# EAGLE library part XC3S5000FG900 (library xilinx_spartan3_virtex4_and_5)
Xilinx FPGA
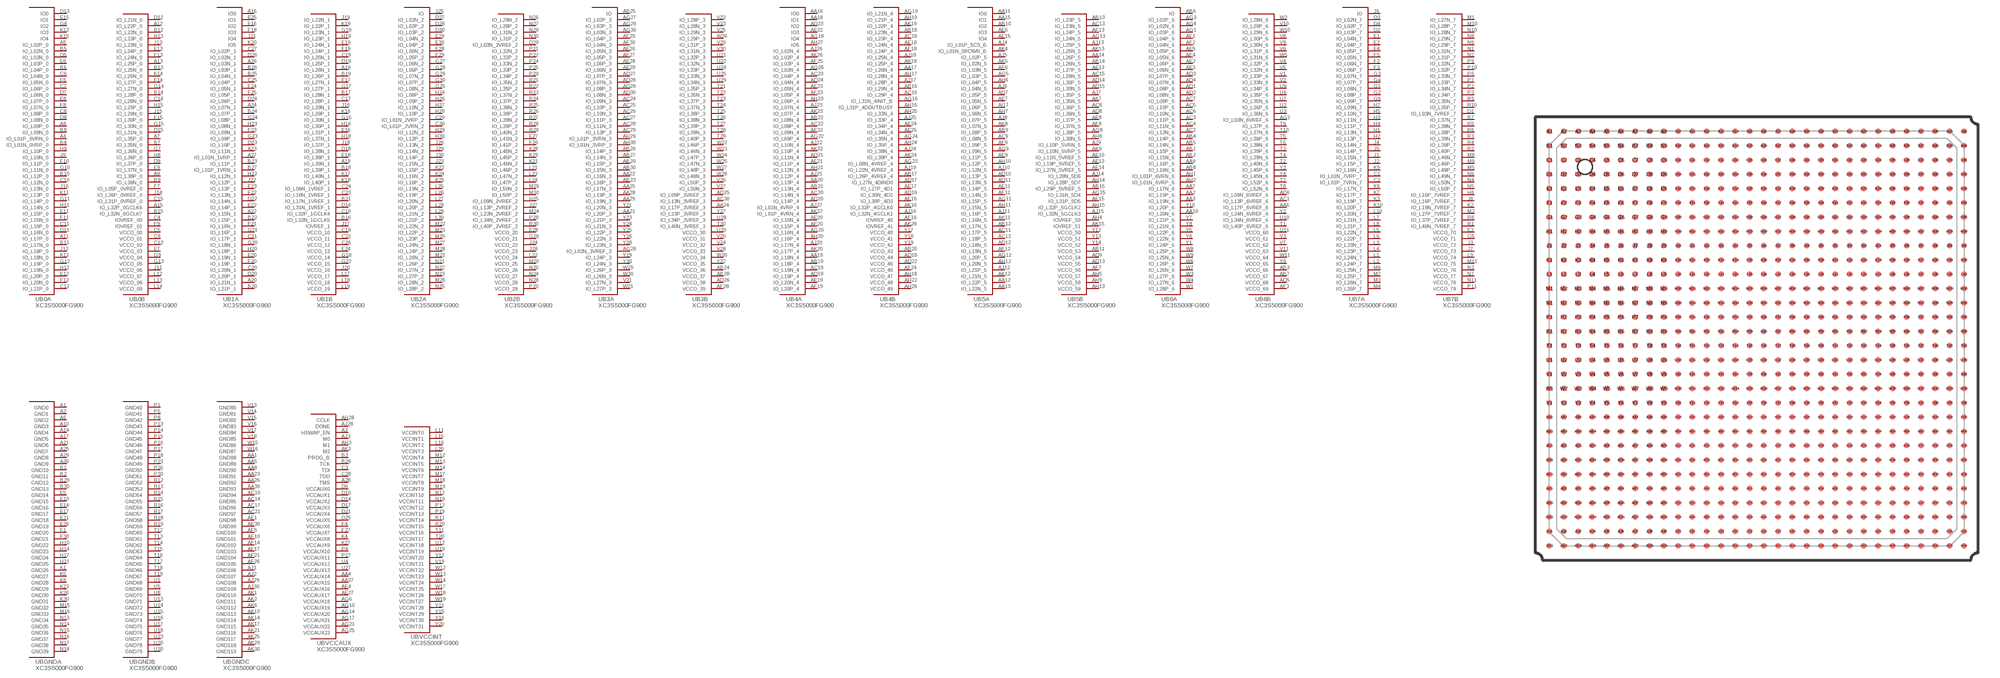
[diagram p25: symbol with the pads of FG900; footprint FG900]

Designator prefix U; gates B0A=XC3S5000FG900_0A B0B=XC3S5000FG900_0B B1A=XC3S5000FG900_1A B1B=XC3S5000FG900_1B B2A=XC3S5000FG900_2A B2B=XC3S5000FG900_2B B3A=XC3S5000FG900_3A B3B=XC3S5000FG900_3B B4A=XC3S5000FG900_4A B4B=XC3S5000FG900_4B B5A=XC3S5000FG900_5A B5B=XC3S5000FG900_5B B6A=XC3S5000FG900_6A B6B=XC3S5000FG900_6B B7A=XC3S5000FG900_7A B7B=XC3S5000FG900_7B BGNDA=XC3S5000FG900_GNDA BGNDB=XC3S5000FG900_GNDB BGNDC=XC3S5000FG900_GNDC BVCCAUX=XC3S5000FG900_VCCAUX BVCCINT=XC3S5000FG900_VCCINT

## XC3S5000FG900  [FG900]
A1  BGNDA:GND0  pas
A2  BGNDA:GND1  pas
A3  BVCCAUX:HSWAP_EN
A4  B0A:IO_L01P_0VRN_0
A5  B0A:IO_L02P_0
A6  BGNDA:GND2  pas
A7  B0B:IO_L35P_0
A8  B0A:IO_L09P_0
A9  B0B:IO_L38P_0
A10  BGNDA:GND3  pas
A11  B0A:IO_L17P_0
A12  B0B:IO_L22P_0
A13  B0B:IO_L25P_0
A14  BGNDA:GND4  pas
A15  B0B:IO_L32P_0GCLK6
A16  B1A:IO0
A17  BGNDA:GND5  pas
A18  B1B:IO_L39N_1
A19  B1B:IO_L26N_1
A20  B1A:IO_L21N_1
A21  BGNDA:GND6  pas
A22  B1A:IO_L15N_1
A23  B1A:IO_L11N_1
A24  B1A:IO_L07N_1
A25  BGNDA:GND7  pas
A26  B1A:IO_L03N_1
A27  B1A:IO_L01N_1VRP_1
A28  BVCCAUX:TMS
A29  BGNDA:GND8  pas
A30  BGNDA:GND9  pas
AA1  BGNDC:GND88  pas
AA2  B6A:IO_L19P_6
AA3  B6A:IO_L19N_6
AA4  BVCCAUX:VCCAUX14  pas
AA5  BGNDC:GND89  pas
AA6  B6B:IO_L17P_6VREF_6
AA7  B6A:IO_L17N_6
AA8  BGNDC:GND90  pas
AA9  B6A:IO_L16P_6
AA10  B6A:IO_L20N_6
AA11  B5A:IO0
AA12  B5A:IO_L22P_5
AA13  B5A:IO_L22N_5
AA14  B5B:IO_L26P_5
AA15  B5A:IO1
AA16  B4A:IO0
AA17  B4B:IO_L26N_4
AA18  B4A:IO1
AA19  B4A:IO_L18N_4
AA20  B4A:IO_L13P_4
AA21  B3A:IO_L20P_3
AA22  B3A:IO_L16N_3
AA23  BGNDC:GND91  pas
AA24  B3B:IO_L17P_3VREF_3
AA25  B3A:IO_L17N_3
AA26  BGNDC:GND92  pas
AA27  BVCCAUX:VCCAUX15  pas
AA28  B3A:IO_L19P_3
AA29  B3A:IO_L19N_3
AA30  BGNDC:GND93  pas
AB1  B6A:IO_L15P_6
AB2  B6A:IO_L15N_6
AB3  B6B:VCCO_66  pas
AB4  B6A:IO_L14P_6
AB5  B6A:IO_L14N_6
AB6  B6A:IO
AB7  B6B:VCCO_67  pas
AB8  B6A:IO_L16N_6
AB9  B5A:IO_L08P_5
AB10  B5A:IO2
AB11  B5B:VCCO_53  pas
AB12  B5A:IO_L17N_5
AB13  B5B:IO_L23P_5
AB14  B5B:IO_L26N_5
AB15  B5B:IO_L29P_5VREF_5
AB16  B4B:IO_L29N_4
AB17  B4B:IO_L26P_4VREF_4
AB18  B4B:IO_L23N_4
AB19  B4A:IO_L18P_4
AB20  B4B:VCCO_43  pas
AB21  B4A:IO_L13N_4
AB22  B4A:IO_L08N_4
AB23  B3A:IO_L16P_3
AB24  B3B:VCCO_36  pas
AB25  B3A:IO
AB26  B3A:IO_L14P_3
AB27  B3A:IO_L14N_3
AB28  B3B:VCCO_37  pas
AB29  B3A:IO_L15P_3
AB30  B3A:IO_L15N_3
AC1  B6B:IO_L13P_6VREF_6
AC2  B6A:IO_L13N_6
AC3  B6A:IO_L11P_6
AC4  B6A:IO_L11N_6
AC5  B6A:IO_L10P_6
AC6  B6A:IO_L10N_6
AC7  B6A:IO_L09P_6
AC8  B5B:IO_L36P_5
AC9  B5A:IO_L08N_5
AC10  BGNDC:GND94  pas
AC11  B5A:IO_L17P_5
AC12  B5A:IO_L18P_5
AC13  B5B:IO_L23N_5
AC14  BGNDC:GND95  pas
AC15  B5B:IO_L29N_5
AC16  B4B:IO_L29P_4
AC17  BGNDC:GND96  pas
AC18  B4B:IO_L23P_4
AC19  B4A:IO_L19N_4
AC20  B4A:IO_L14N_4
AC21  BGNDC:GND97  pas
AC22  B4A:IO_L08P_4
AC23  B4A:IO_L04P_4
AC24  B3A:IO_L09N_3
AC25  B3A:IO_L10P_3
AC26  B3A:IO_L10N_3
AC27  B3A:IO_L11P_3
AC28  B3A:IO_L11N_3
AC29  B3A:IO_L13P_3
AC30  B3B:IO_L13N_3VREF_3
AD1  B6A:IO_L08P_6
AD2  B6A:IO_L08N_6
AD3  B6A:IO_L07P_6
AD4  B6A:IO_L07N_6
AD5  B6B:VCCO_68  pas
AD6  B6B:IO_L09N_6VREF_6
AD7  B5A:IO_L05P_5
AD8  B5B:IO_L36N_5
AD9  B5B:VCCO_54  pas
AD10  B5A:IO_L13P_5
AD11  B5A:IO_L13N_5
AD12  B5A:IO_L18N_5
AD13  B5B:VCCO_55  pas
AD14  B5B:IO_L30P_5
AD15  B5B:IO_L30N_5
AD16  B4B:IO_L30N_4D2
AD17  B4B:IO_L27N_4DIND0
AD18  B4B:VCCO_44  pas
AD19  B4A:IO_L19P_4
AD20  B4A:IO_L14P_4
AD21  B4A:IO_L11N_4
AD22  B4B:VCCO_45  pas
AD23  B4A:IO2
AD24  B4A:IO_L04N_4
AD25  B3B:IO_L09P_3VREF_3
AD26  B3B:VCCO_38  pas
AD27  B3A:IO_L07P_3
AD28  B3A:IO_L07N_3
AD29  B3A:IO_L08P_3
AD30  B3A:IO_L08N_3
AE1  BGNDC:GND98  pas
AE2  B6A:IO_L06P_6
AE3  B6A:IO_L06N_6
AE4  BVCCAUX:VCCAUX16  pas
AE5  B6A:IO_L05P_6
AE6  B5A:IO3
AE7  B5A:IO_L05N_5
AE8  B5B:IO_L37P_5
AE9  B5A:IO_L11P_5
AE10  B5B:IO_L11N_5VREF_5
AE11  B5A:IO_L14P_5
AE12  B5B:IO_L19P_5VREF_5
AE13  B5B:IO_L27P_5
AE14  B5B:IO_L27N_5VREF_5
AE15  B5A:IO4
AE16  B4B:IO_L30P_4D3
AE17  B4B:IO_L27P_4D1
AE18  B4B:IO_L24N_4
AE19  B4A:IO_L20N_4
AE20  B4A:IO_L15N_4
AE21  B4A:IO_L11P_4
AE22  B4A:IO3
AE23  B4A:IO_L05N_4
AE24  B4B:IO_L34P_4
AE25  B4B:IO_L34N_4
AE26  B3A:IO_L05N_3
AE27  BVCCAUX:VCCAUX17  pas
AE28  B3A:IO_L06P_3
AE29  B3A:IO_L06N_3
AE30  BGNDC:GND99  pas
AF1  B6A:IO_L04P_6
AF2  B6A:IO_L04N_6
AF3  B6B:VCCO_69  pas
AF4  B6A:IO_L05N_6
AF5  BGNDC:GND100  pas
AF6  B5A:IO_L03N_5
AF7  B5B:VCCO_56  pas
AF8  B5B:IO_L37N_5
AF9  B5A:IO_L09P_5
AF10  BGNDC:GND101  pas
AF11  B5A:IO_L14N_5
AF12  B5A:IO_L19N_5
AF13  B5B:IO_L24P_5
AF14  BGNDC:GND102  pas
AF15  B5B:IO_L31P_5D5
AF16  B4B:IOVREF_40
AF17  BGNDC:GND103  pas
AF18  B4B:IO_L24P_4
AF19  B4A:IO_L20P_4
AF20  B4A:IO_L15P_4
AF21  BGNDC:GND104  pas
AF22  B4A:IO_L09N_4
AF23  B4A:IO_L05P_4
AF24  B4B:VCCO_46  pas
AF25  B4A:IO_L03P_4
AF26  BGNDC:GND105  pas
AF27  B3A:IO_L05P_3
AF28  B3B:VCCO_39  pas
AF29  B3A:IO_L04P_3
AF30  B3A:IO_L04N_3
AG1  B6A:IO_L03P_6
AG2  B6B:IO_L03N_6VREF_6
AG3  B6A:IO_L02P_6
AG4  B6A:IO_L02N_6
AG5  B5A:IO_L03P_5
AG6  BVCCAUX:VCCAUX18  pas
AG7  B5A:IO_L06P_5
AG8  B5B:IO_L38P_5
AG9  B5A:IO_L09N_5
AG10  BVCCAUX:VCCAUX19  pas
AG11  B5A:IO_L15P_5
AG12  B5A:IO_L20P_5
AG13  B5B:IO_L24N_5
AG14  BVCCAUX:VCCAUX20  pas
AG15  B5B:IO_L31N_5D4
AG16  B4B:IO_L31N_4INIT_B
AG17  BVCCAUX:VCCAUX21  pas
AG18  B4A:IO4
AG19  B4B:IO_L21N_4
AG20  B4A:IO_L16N_4
AG21  BVCCAUX:VCCAUX22  pas
AG22  B4A:IO_L09P_4
AG23  B4B:IO_L06N_4VREF_4
AG24  B4B:IO_L35N_4
AG25  BVCCAUX:VCCAUX23  pas
AG26  B4A:IO_L03N_4
AG27  B3A:IO_L02P_3
AG28  B3A:IO_L02N_3VREF_3
AG29  B3A:IO_L03P_3
AG30  B3A:IO_L03N_3
AH1  B6A:IO_L01P_6VRN_6
AH2  B6A:IO_L01N_6VRP_6
AH3  BVCCAUX:M1
AH4  B5B:IOVREF_50
AH5  B5B:VCCO_57  pas
AH6  B5A:IO_L04P_5
AH7  B5A:IO_L06N_5
AH8  B5B:IO_L38N_5
AH9  B5B:VCCO_58  pas
AH10  B5A:IO_L12P_5
AH11  B5A:IO_L15N_5
AH12  B5A:IO_L20N_5
AH13  B5B:VCCO_59  pas
AH14  B5B:IO_L28P_5D7
AH15  B5B:IO_L32P_5GCLK2
AH16  B4B:IO_L31P_4DOUTBUSY
AH17  B4B:IO_L28N_4
AH18  B4B:VCCO_47  pas
AH19  B4B:IO_L21P_4
AH20  B4A:IO_L16P_4
AH21  B4A:IO_L12N_4
AH22  B4B:VCCO_48  pas
AH23  B4A:IO_L06P_4
AH24  B4B:IO_L35P_4
AH25  B4B:IO_L33N_4
AH26  B4B:VCCO_49  pas
AH27  B4A:IO5
AH28  BVCCAUX:CCLK
AH29  B3A:IO_L01P_3VRN_3
AH30  B3A:IO_L01N_3VRP_3
AJ1  BGNDC:GND106  pas
AJ2  BGNDC:GND107  pas
AJ3  BVCCAUX:M0
AJ4  B5A:IO_L01P_5CS_B
AJ5  B5A:IO_L02P_5
AJ6  B5A:IO_L04N_5
AJ7  B5B:IO_L35P_5
AJ8  B5A:IO_L07P_5
AJ9  B5B:IO_L10P_5VRN_5
AJ10  B5A:IO_L12N_5
AJ11  B5A:IO_L16P_5
AJ12  B5A:IO_L21P_5
AJ13  B5B:IO_L25P_5
AJ14  B5B:IO_L28N_5D6
AJ15  B5B:IO_L32N_5GCLK3
AJ16  B4B:IO_L32N_4GCLK1
AJ17  B4B:IO_L28P_4
AJ18  B4B:IO_L25N_4
AJ19  B4B:IO_L22N_4VREF_4
AJ20  B4A:IO_L17N_4
AJ21  B4A:IO_L12P_4
AJ22  B4A:IO_L10N_4
AJ23  B4A:IO_L07N_4
AJ24  B4B:IO_L38N_4
AJ25  B4B:IO_L33P_4
AJ26  B4A:IO_L02N_4
AJ27  B4A:IO_L01N_4VRP_4
AJ28  BVCCAUX:DONE
AJ29  BGNDC:GND108  pas
AJ30  BGNDC:GND109  pas
AK1  BGNDC:GND110  pas
AK2  BGNDC:GND111  pas
AK3  BVCCAUX:M2
AK4  B5A:IO_L01N_5RDWR_B
AK5  B5A:IO_L02N_5
AK6  BGNDC:GND112  pas
AK7  B5B:IO_L35N_5
AK8  B5A:IO_L07N_5
AK9  B5B:IO_L10N_5VRP_5
AK10  BGNDC:GND113  pas
AK11  B5A:IO_L16N_5
AK12  B5A:IO_L21N_5
AK13  B5B:IO_L25N_5
AK14  BGNDC:GND114  pas
AK15  B5B:IOVREF_51
AK16  B4B:IO_L32P_4GCLK0
AK17  BGNDC:GND115  pas
AK18  B4B:IO_L25P_4
AK19  B4B:IO_L22P_4
AK20  B4A:IO_L17P_4
AK21  BGNDC:GND116  pas
AK22  B4A:IO_L10P_4
AK23  B4A:IO_L07P_4
AK24  B4B:IO_L38P_4
AK25  BGNDC:GND117  pas
AK26  B4A:IO_L02P_4
AK27  B4A:IO_L01P_4VRN_4
AK28  B4B:IOVREF_41
AK29  BGNDC:GND118  pas
AK30  BGNDC:GND119  pas
B1  BGNDA:GND10  pas
B2  BGNDA:GND11  pas
B3  BVCCAUX:PROG_B
B4  B0A:IO_L01N_0VRP_0
B5  B0A:IO_L02N_0
B6  B0A:IO_L04P_0
B7  B0B:IO_L35N_0
B8  B0A:IO_L09N_0
B9  B0B:IO_L38N_0
B10  B0A:IO_L12P_0
B11  B0A:IO_L17N_0
B12  B0B:IO_L22N_0
B13  B0B:IO_L25N_0
B14  B0B:IO_L28P_0
B15  B0B:IO_L32N_0GCLK7
B16  B1B:IO_L32N_1GCLK5
B17  B1B:IO_L28N_1
B18  B1B:IO_L39P_1
B19  B1B:IO_L26P_1
B20  B1A:IO_L21P_1
B21  B1B:IO_L17N_1VREF_1
B22  B1A:IO_L15P_1
B23  B1A:IO_L11P_1
B24  B1A:IO_L07P_1
B25  B1A:IO_L04N_1
B26  B1A:IO_L03P_1
B27  B1A:IO_L01P_1VRN_1
B28  BVCCAUX:TCK
B29  BGNDA:GND12  pas
B30  BGNDA:GND13  pas
C1  B7A:IO_L01N_7VRP_7
C2  B7A:IO_L01P_7VRN_7
C3  BVCCAUX:TDI
C4  B0B:IOVREF_00
C5  B0B:VCCO_00  pas
C6  B0A:IO_L04N_0
C7  B0A:IO_L06P_0
C8  B0A:IO_L08P_0
C9  B0B:VCCO_01  pas
C10  B0A:IO_L12N_0
C11  B0A:IO_L16P_0
C12  B0A:IO_L21P_0
C13  B0B:VCCO_02  pas
C14  B0B:IO_L28N_0
C15  B0B:IO_L31P_0VREF_0
C16  B1B:IO_L32P_1GCLK4
C17  B1B:IO_L28P_1
C18  B1B:VCCO_10  pas
C19  B1B:IO_L25N_1
C20  B1A:IO_L20N_1
C21  B1A:IO_L17P_1
C22  B1B:VCCO_11  pas
C23  B1B:IO_L10N_1VREF_1
C24  B1B:IO_L06N_1VREF_1
C25  B1A:IO_L04P_1
C26  B1B:VCCO_12  pas
C27  B1A:IO_L02P_1
C28  BVCCAUX:TDO
C29  B2A:IO_L01N_2VRP_2
C30  B2A:IO_L01P_2VRN_2
D1  B7B:IO_L03N_7VREF_7
D2  B7A:IO_L03P_7
D3  B7A:IO_L02N_7
D4  B7A:IO_L02P_7
D5  B0A:IO_L03N_0
D6  BVCCAUX:VCCAUX0  pas
D7  B0A:IO_L06N_0
D8  B0A:IO_L08N_0
D9  B0B:IO_L37P_0
D10  BVCCAUX:VCCAUX1  pas
D11  B0A:IO_L16N_0
D12  B0B:IO_L21N_0
D13  B0A:IO0
D14  BVCCAUX:VCCAUX2  pas
D15  B0B:IO_L31N_0
D16  B1B:IO_L31N_1VREF_1
D17  BVCCAUX:VCCAUX3  pas
D18  B1B:IO_L38N_1
D19  B1B:IO_L25P_1
D20  B1A:IO_L20P_1
D21  BVCCAUX:VCCAUX4  pas
D22  B1A:IO_L14N_1
D23  B1A:IO_L10P_1
D24  B1A:IO_L06P_1
D25  BVCCAUX:VCCAUX5  pas
D26  B1A:IO_L02N_1
D27  B2A:IO_L02N_2
D28  B2A:IO_L02P_2
D29  B2B:IO_L03N_2VREF_2
D30  B2A:IO_L03P_2
E1  B7A:IO_L04N_7
E2  B7A:IO_L04P_7
E3  B7B:VCCO_70  pas
E4  B7A:IO_L05P_7
E5  BGNDA:GND14  pas
E6  B0A:IO_L03P_0
E7  B0B:VCCO_03  pas
E8  B0A:IO_L07P_0
E9  B0B:IO_L37N_0
E10  BGNDA:GND15  pas
E11  B0A:IO_L15P_0
E12  B0A:IO_L20P_0
E13  B0B:IO_L24P_0
E14  BGNDA:GND16  pas
E15  B0A:IO1
E16  B1B:IO_L31P_1
E17  BGNDA:GND17  pas
E18  B1B:IO_L38P_1
E19  B1B:IO_L24N_1
E20  B1A:IO_L19N_1
E21  BGNDA:GND18  pas
E22  B1A:IO_L14P_1
E23  B1A:IO_L13P_1
E24  B1B:VCCO_13  pas
E25  B1A:IO1
E26  BGNDA:GND19  pas
E27  B2B:IO_L41N_2
E28  B2B:VCCO_20  pas
E29  B2A:IO_L04N_2
E30  B2A:IO_L04P_2
F1  BGNDA:GND20  pas
F2  B7A:IO_L06N_7
F3  B7A:IO_L06P_7
F4  BVCCAUX:VCCAUX6  pas
F5  B7A:IO_L05N_7
F6  B0A:IO_L05N_0
F7  B0B:IO_L05P_0VREF_0
F8  B0A:IO_L07N_0
F9  B0B:IOVREF_01
F10  B0A:IO_L11P_0
F11  B0A:IO_L15N_0
F12  B0A:IO_L20N_0
F13  B0B:IO_L24N_0
F14  B0B:IO_L27P_0
F15  B0B:IO_L30P_0
F16  B1A:IO2
F17  B1B:IO_L27N_1
F18  B1A:IO3
F19  B1B:IO_L24P_1
F20  B1A:IO_L19P_1
F21  B1A:IO_L16N_1
F22  B1A:IO_L13N_1
F23  B1A:IO_L09N_1
F24  B1A:IO_L05N_1
F25  B1A:IO_L05P_1
F26  B2B:IO_L41P_2
F27  BVCCAUX:VCCAUX7  pas
F28  B2A:IO_L05N_2
F29  B2A:IO_L05P_2
F30  BGNDA:GND21  pas
G1  B7A:IO_L08N_7
G2  B7A:IO_L08P_7
G3  B7A:IO_L07N_7
G4  B7A:IO_L07P_7
G5  B7B:VCCO_71  pas
G6  B7A:IO_L09P_7
G7  B0B:IO_L36N_0
G8  B0A:IO2
G9  B0B:VCCO_04  pas
G10  B0A:IO_L11N_0
G11  B0A:IO_L14P_0
G12  B0A:IO_L19P_0
G13  B0B:VCCO_05  pas
G14  B0B:IO_L27N_0
G15  B0B:IO_L30N_0
G16  B1B:IO_L30N_1
G17  B1B:IO_L27P_1
G18  B1B:VCCO_14  pas
G19  B1B:IO_L23N_1
G20  B1A:IO_L18N_1
G21  B1A:IO_L16P_1
G22  B1B:VCCO_15  pas
G23  B1A:IO_L09P_1
G24  B1A:IO_L08P_1
G25  B2A:IO_L08N_2
G26  B2B:VCCO_21  pas
G27  B2A:IO_L06N_2
G28  B2A:IO_L06P_2
G29  B2A:IO_L07N_2
G30  B2A:IO_L07P_2
H1  B7A:IO_L13N_7
H2  B7A:IO_L13P_7
H3  B7A:IO_L11N_7
H4  B7A:IO_L11P_7
H5  B7A:IO_L10N_7
H6  B7B:IO_L10P_7VREF_7
H7  B7A:IO_L09N_7
H8  B0B:IO_L36P_0
H9  B0A:IO_L10P_0
H10  BGNDA:GND22  pas
H11  B0A:IO_L14N_0
H12  B0A:IO_L19N_0
H13  B0B:IO_L23P_0
H14  BGNDA:GND23  pas
H15  B0B:IO_L29P_0
H16  B1B:IO_L30P_1
H17  BGNDA:GND24  pas
H18  B1B:IO_L37N_1
H19  B1B:IO_L23P_1
H20  B1A:IO_L18P_1
H21  BGNDA:GND25  pas
H22  B1A:IO_L12N_1
H23  B1A:IO_L08N_1
H24  B2A:IO_L08P_2
H25  B2B:IO_L09N_2VREF_2
H26  B2A:IO_L09P_2
H27  B2A:IO_L10N_2
H28  B2A:IO_L10P_2
H29  B2A:IO_L12N_2
H30  B2A:IO_L12P_2
J1  B7A:IO_L15N_7
J2  B7A:IO_L15P_7
J3  B7B:VCCO_72  pas
J4  B7A:IO_L14N_7
J5  B7A:IO_L14P_7
J6  B7A:IO
J7  B7B:VCCO_73  pas
J8  B7B:IO_L16P_7VREF_7
J9  B0A:IO_L10N_0
J10  B0A:IO_L13N_0
J11  B0B:VCCO_06  pas
J12  B0A:IO_L18P_0
J13  B0B:IO_L23N_0
J14  B0B:IO_L26P_0VREF_0
J15  B0B:IO_L29N_0
J16  B1B:IO_L29N_1
J17  B1B:IOVREF_1
J18  B1B:IO_L37P_1
J19  B1B:IO_L22N_1
J20  B1B:VCCO_16  pas
J21  B1A:IO4
J22  B1A:IO_L12P_1
J23  B2A:IO_L15N_2
J24  B2B:VCCO_22  pas
J25  B2A:IO
J26  B2A:IO_L13N_2
J27  B2B:IO_L13P_2VREF_2
J28  B2B:VCCO_23  pas
J29  B2A:IO_L14N_2
J30  B2A:IO_L14P_2
K1  BGNDA:GND26  pas
K2  B7B:IO_L19N_7VREF_7
K3  B7A:IO_L19P_7
K4  BVCCAUX:VCCAUX8  pas
K5  BGNDA:GND27  pas
K6  B7A:IO_L17N_7
K7  B7A:IO_L17P_7
K8  BGNDA:GND28  pas
K9  B7A:IO_L16N_7
K10  B7A:IO_L20P_7
K11  B0A:IO_L13P_0
K12  B0A:IO_L18N_0
K13  B0A:IO3
K14  B0B:IO_L26N_0
K15  B0A:IO4
K16  B1B:IO_L29P_1
K17  B1B:IO_L40N_1
K18  B1B:IO_L40P_1
K19  B1B:IO_L22P_1
K20  B1A:IO5
K21  B2B:IO_L46N_2
K22  B2A:IO_L15P_2
K23  BGNDA:GND29  pas
K24  B2A:IO_L16N_2
K25  B2A:IO_L16P_2
K26  BGNDA:GND30  pas
K27  BVCCAUX:VCCAUX9  pas
K28  B2B:IO_L45N_2
K29  B2B:IO_L45P_2
K30  BGNDA:GND31  pas
L1  B7A:IO_L24N_7
L2  B7A:IO_L24P_7
L3  B7A:IO_L23N_7
L4  B7A:IO_L23P_7
L5  B7A:IO_L22N_7
L6  B7A:IO_L22P_7
L7  B7A:IO_L21N_7
L8  B7A:IO_L21P_7
L9  B7B:VCCO_74  pas
L10  B7A:IO_L20N_7
L11  BVCCINT:VCCINT0  pas
L12  B0B:VCCO_07  pas
L13  B0B:VCCO_08  pas
L14  B0B:VCCO_09  pas
L15  BVCCINT:VCCINT1  pas
L16  BVCCINT:VCCINT2  pas
L17  B1B:VCCO_17  pas
L18  B1B:VCCO_18  pas
L19  B1B:VCCO_19  pas
L20  BVCCINT:VCCINT3  pas
L21  B2B:IO_L46P_2
L22  B2B:VCCO_24  pas
L23  B2B:IO_L47N_2
L24  B2B:IO_L47P_2
L25  B2A:IO_L19N_2
L26  B2A:IO_L19P_2
L27  B2A:IO_L20N_2
L28  B2A:IO_L20P_2
L29  B2A:IO_L21N_2
L30  B2A:IO_L21P_2
M1  B7B:IO_L27N_7
M2  B7B:IO_L27P_7VREF_7
M3  B7A:IO_L26N_7
M4  B7A:IO_L26P_7
M5  B7B:IO_L49P_7
M6  B7A:IO_L25N_7
M7  B7A:IO_L25P_7
M8  B7B:IO_L46N_7
M9  B7B:IO_L46P_7
M10  B7B:IO_L28P_7
M11  B7B:VCCO_75  pas
M12  BVCCINT:VCCINT4  pas
M13  BVCCINT:VCCINT5  pas
M14  BVCCINT:VCCINT6  pas
M15  BGNDA:GND32  pas
M16  BGNDA:GND33  pas
M17  BVCCINT:VCCINT7  pas
M18  BVCCINT:VCCINT8  pas
M19  BVCCINT:VCCINT9  pas
M20  B2B:VCCO_25  pas
M21  B2A:IO_L26N_2
M22  B2A:IO_L22N_2
M23  B2A:IO_L22P_2
M24  B2B:IO_L23N_2VREF_2
M25  B2A:IO_L23P_2
M26  B2A:IO_L28N_2
M27  B2A:IO_L24N_2
M28  B2A:IO_L24P_2
M29  B2B:IO_L50N_2
M30  B2B:IO_L50P_2
N1  B7B:IO_L31N_7
N2  B7B:IO_L31P_7
N3  B7B:VCCO_76  pas
N4  B7B:IO_L50N_7
N5  B7B:IO_L50P_7
N6  B7B:IO_L49N_7
N7  B7B:VCCO_77  pas
N8  B7B:IO_L29N_7
N9  B7B:IO_L29P_7
N10  B7B:IO_L28N_7
N11  B7B:VCCO_78  pas
N12  BVCCINT:VCCINT10  pas
N13  BGNDA:GND34  pas
N14  BGNDA:GND35  pas
N15  BGNDA:GND36  pas
N16  BGNDA:GND37  pas
N17  BGNDA:GND38  pas
N18  BGNDA:GND39  pas
N19  BVCCINT:VCCINT11  pas
N20  B2B:VCCO_26  pas
N21  B2A:IO_L26P_2
N22  B2A:IO_L27N_2
N23  B2A:IO_L27P_2
N24  B2B:VCCO_27  pas
N25  B2A:IO_L28P_2
N26  B2B:IO_L29N_2
N27  B2B:IO_L29P_2
N28  B2B:VCCO_28  pas
N29  B2B:IO_L31N_2
N30  B2B:IO_L31P_2
P1  BGNDB:GND40  pas
P2  B7B:IO_L34N_7
P3  B7B:IO_L34P_7
P4  BVCCAUX:VCCAUX10  pas
P5  BGNDB:GND41  pas
P6  B7B:IO_L33N_7
P7  B7B:IO_L33P_7
P8  BGNDB:GND42  pas
P9  B7B:IO_L32N_7
P10  B7B:IO_L32P_7
P11  B7B:VCCO_79  pas
P12  BVCCINT:VCCINT12  pas
P13  BGNDB:GND43  pas
P14  BGNDB:GND44  pas
P15  BGNDB:GND45  pas
P16  BGNDB:GND46  pas
P17  BGNDB:GND47  pas
P18  BGNDB:GND48  pas
P19  BVCCINT:VCCINT13  pas
P20  B2B:VCCO_29  pas
P21  B2B:IO_L32N_2
P22  B2B:IO_L32P_2
P23  BGNDB:GND49  pas
P24  B2B:IO_L33N_2
P25  B2B:IO_L33P_2
P26  BGNDB:GND50  pas
P27  BVCCAUX:VCCAUX11  pas
P28  B2B:IO_L34N_2VREF_2
P29  B2B:IO_L34P_2
P30  BGNDB:GND51  pas
R1  B7B:IO_L40N_7VREF_7
R2  B7B:IO_L40P_7
R3  B7B:IO_L39N_7
R4  B7B:IO_L39P_7
R5  B7B:IO_L38N_7
R6  B7B:IO_L38P_7
R7  B7B:IO_L37N_7
R8  B7B:IO_L37P_7VREF_7
R9  B7B:IO_L35N_7
R10  B7B:IO_L35P_7
R11  BVCCINT:VCCINT14  pas
R12  BGNDB:GND52  pas
R13  BGNDB:GND53  pas
R14  BGNDB:GND54  pas
R15  BGNDB:GND55  pas
R16  BGNDB:GND56  pas
R17  BGNDB:GND57  pas
R18  BGNDB:GND58  pas
R19  BGNDB:GND59  pas
R20  BVCCINT:VCCINT15  pas
R21  B2B:IO_L35N_2
R22  B2B:IO_L35P_2
R23  B2B:IO_L37N_2
R24  B2B:IO_L37P_2
R25  B2B:IO_L38N_2
R26  B2B:IO_L38P_2
R27  B2B:IO_L39N_2
R28  B2B:IO_L39P_2
R29  B2B:IO_L40N_2
R30  B2B:IO_L40P_2VREF_2
T1  B6B:IO_L40P_6VREF_6
T2  B6B:IO_L40N_6
T3  B6B:IO_L39P_6
T4  B6B:IO_L39N_6
T5  B6B:IO_L38P_6
T6  B6B:IO_L38N_6
T7  B6B:IO_L52P_6
T8  B6B:IO_L52N_6
T9  B6B:IO_L37P_6
T10  B6B:IO_L37N_6
T11  BVCCINT:VCCINT16  pas
T12  BGNDB:GND60  pas
T13  BGNDB:GND61  pas
T14  BGNDB:GND62  pas
T15  BGNDB:GND63  pas
T16  BGNDB:GND64  pas
T17  BGNDB:GND65  pas
T18  BGNDB:GND66  pas
T19  BGNDB:GND67  pas
T20  BVCCINT:VCCINT17  pas
T21  B3B:IO_L35P_3
T22  B3B:IO_L35N_3
T23  B3B:IO_L37P_3
T24  B3B:IO_L37N_3
T25  B3B:IO_L38P_3
T26  B3B:IO_L38N_3
T27  B3B:IO_L39P_3
T28  B3B:IO_L39N_3
T29  B3B:IO_L40P_3
T30  B3B:IO_L40N_3VREF_3
U1  BGNDB:GND68  pas
U2  B6B:IO_L36P_6
U3  B6B:IO_L36N_6
U4  BVCCAUX:VCCAUX12  pas
U5  BGNDB:GND69  pas
U6  B6B:IO_L35P_6
U7  B6B:IO_L35N_6
U8  BGNDB:GND70  pas
U9  B6B:IO_L34P_6
U10  B6B:IO_L34N_6VREF_6
U11  B6B:VCCO_60  pas
U12  BVCCINT:VCCINT18  pas
U13  BGNDB:GND71  pas
U14  BGNDB:GND72  pas
U15  BGNDB:GND73  pas
U16  BGNDB:GND74  pas
U17  BGNDB:GND75  pas
U18  BGNDB:GND76  pas
U19  BVCCINT:VCCINT19  pas
U20  B3B:VCCO_30  pas
U21  B3B:IO_L32P_3
U22  B3B:IO_L32N_3
U23  BGNDB:GND77  pas
U24  B3B:IO_L33P_3
U25  B3B:IO_L33N_3
U26  BGNDB:GND78  pas
U27  BVCCAUX:VCCAUX13  pas
U28  B3B:IO_L34P_3VREF_3
U29  B3B:IO_L34N_3
U30  BGNDB:GND79  pas
V1  B6B:IO_L33P_6
V2  B6B:IO_L33N_6
V3  B6B:VCCO_61  pas
V4  B6B:IO_L32P_6
V5  B6B:IO_L32N_6
V6  B6B:IO_L31P_6
V7  B6B:VCCO_62  pas
V8  B6B:IO_L30P_6
V9  B6B:IO_L30N_6
V10  B6B:IO_L29P_6
V11  B6B:VCCO_63  pas
V12  BVCCINT:VCCINT20  pas
V13  BGNDC:GND80  pas
V14  BGNDC:GND81  pas
V15  BGNDC:GND82  pas
V16  BGNDC:GND83  pas
V17  BGNDC:GND84  pas
V18  BGNDC:GND85  pas
V19  BVCCINT:VCCINT21  pas
V20  B3B:VCCO_31  pas
V21  B3A:IO_L27N_3
V22  B3B:IO_L28P_3
V23  B3B:IO_L28N_3
V24  B3B:VCCO_32  pas
V25  B3B:IO_L29N_3
V26  B3B:IO_L50P_3
V27  B3B:IO_L50N_3
V28  B3B:VCCO_33  pas
V29  B3B:IO_L31P_3
V30  B3B:IO_L31N_3
W1  B6A:IO_L28P_6
W2  B6B:IO_L28N_6
W3  B6A:IO_L27P_6
W4  B6A:IO_L27N_6
W5  B6B:IO_L31N_6
W6  B6A:IO_L26P_6
W7  B6A:IO_L26N_6
W8  B6A:IO_L25P_6
W9  B6A:IO_L25N_6
W10  B6B:IO_L29N_6
W11  B6B:VCCO_64  pas
W12  BVCCINT:VCCINT22  pas
W13  BVCCINT:VCCINT23  pas
W14  BVCCINT:VCCINT24  pas
W15  BGNDC:GND86  pas
W16  BGNDC:GND87  pas
W17  BVCCINT:VCCINT25  pas
W18  BVCCINT:VCCINT26  pas
W19  BVCCINT:VCCINT27  pas
W20  B3B:VCCO_34  pas
W21  B3A:IO_L27P_3
W22  B3B:IO_L46P_3
W23  B3B:IO_L46N_3
W24  B3B:IO_L47P_3
W25  B3B:IO_L47N_3
W26  B3B:IO_L29P_3
W27  B3B:IO_L48P_3
W28  B3B:IO_L48N_3
W29  B3A:IO_L26P_3
W30  B3A:IO_L26N_3
Y1  B6A:IO_L24P_6
Y2  B6B:IO_L24N_6VREF_6
Y3  B6B:IO_L45P_6
Y4  B6B:IO_L45N_6
Y5  B6A:IO_L22P_6
Y6  B6A:IO_L22N_6
Y7  B6A:IO_L21P_6
Y8  B6A:IO_L21N_6
Y9  B6B:VCCO_65  pas
Y10  B6A:IO_L20P_6
Y11  BVCCINT:VCCINT28  pas
Y12  B5B:VCCO_50  pas
Y13  B5B:VCCO_51  pas
Y14  B5B:VCCO_52  pas
Y15  BVCCINT:VCCINT29  pas
Y16  BVCCINT:VCCINT30  pas
Y17  B4B:VCCO_40  pas
Y18  B4B:VCCO_41  pas
Y19  B4B:VCCO_42  pas
Y20  BVCCINT:VCCINT31  pas
Y21  B3A:IO_L20N_3
Y22  B3B:VCCO_35  pas
Y23  B3A:IO_L21P_3
Y24  B3A:IO_L21N_3
Y25  B3A:IO_L22P_3
Y26  B3A:IO_L22N_3
Y27  B3B:IO_L23P_3VREF_3
Y28  B3A:IO_L23N_3
Y29  B3A:IO_L24P_3
Y30  B3A:IO_L24N_3

## Footprint FG900 (pad centres in mm)
smd 0.4 x 0.4: A1 -14.5,14.5; A2 -13.5,14.5; A3 -12.5,14.5; A4 -11.5,14.5; A5 -10.5,14.5; A6 -9.5,14.5; A7 -8.5,14.5; A8 -7.5,14.5; A9 -6.5,14.5; A10 -5.5,14.5; A11 -4.5,14.5; A12 -3.5,14.5; A13 -2.5,14.5; A14 -1.5,14.5; A15 -0.5,14.5; A16 0.5,14.5; A17 1.5,14.5; A18 2.5,14.5; A19 3.5,14.5; A20 4.5,14.5; A21 5.5,14.5; A22 6.5,14.5; A23 7.5,14.5; A24 8.5,14.5; A25 9.5,14.5; A26 10.5,14.5; A27 11.5,14.5; A28 12.5,14.5; A29 13.5,14.5; A30 14.5,14.5; AA1 -14.5,-5.5; AA2 -13.5,-5.5; AA3 -12.5,-5.5; AA4 -11.5,-5.5; AA5 -10.5,-5.5; AA6 -9.5,-5.5; AA7 -8.5,-5.5; AA8 -7.5,-5.5; AA9 -6.5,-5.5; AA10 -5.5,-5.5; AA11 -4.5,-5.5; AA12 -3.5,-5.5; AA13 -2.5,-5.5; AA14 -1.5,-5.5; AA15 -0.5,-5.5; AA16 0.5,-5.5; AA17 1.5,-5.5; AA18 2.5,-5.5; AA19 3.5,-5.5; AA20 4.5,-5.5; AA21 5.5,-5.5; AA22 6.5,-5.5; AA23 7.5,-5.5; AA24 8.5,-5.5; AA25 9.5,-5.5; AA26 10.5,-5.5; AA27 11.5,-5.5; AA28 12.5,-5.5; AA29 13.5,-5.5; AA30 14.5,-5.5; AB1 -14.5,-6.5; AB2 -13.5,-6.5; AB3 -12.5,-6.5; AB4 -11.5,-6.5; AB5 -10.5,-6.5; AB6 -9.5,-6.5; AB7 -8.5,-6.5; AB8 -7.5,-6.5; AB9 -6.5,-6.5; AB10 -5.5,-6.5; AB11 -4.5,-6.5; AB12 -3.5,-6.5; AB13 -2.5,-6.5; AB14 -1.5,-6.5; AB15 -0.5,-6.5; AB16 0.5,-6.5; AB17 1.5,-6.5; AB18 2.5,-6.5; AB19 3.5,-6.5; AB20 4.5,-6.5; AB21 5.5,-6.5; AB22 6.5,-6.5; AB23 7.5,-6.5; AB24 8.5,-6.5; AB25 9.5,-6.5; AB26 10.5,-6.5; AB27 11.5,-6.5; AB28 12.5,-6.5; AB29 13.5,-6.5; AB30 14.5,-6.5; AC1 -14.5,-7.5; AC2 -13.5,-7.5; AC3 -12.5,-7.5; AC4 -11.5,-7.5; AC5 -10.5,-7.5; AC6 -9.5,-7.5; AC7 -8.5,-7.5; AC8 -7.5,-7.5; AC9 -6.5,-7.5; AC10 -5.5,-7.5; AC11 -4.5,-7.5; AC12 -3.5,-7.5; AC13 -2.5,-7.5; AC14 -1.5,-7.5; AC15 -0.5,-7.5; AC16 0.5,-7.5; AC17 1.5,-7.5; AC18 2.5,-7.5; AC19 3.5,-7.5; AC20 4.5,-7.5; AC21 5.5,-7.5; AC22 6.5,-7.5; AC23 7.5,-7.5; AC24 8.5,-7.5; AC25 9.5,-7.5; AC26 10.5,-7.5; AC27 11.5,-7.5; AC28 12.5,-7.5; AC29 13.5,-7.5; AC30 14.5,-7.5; AD1 -14.5,-8.5; AD2 -13.5,-8.5; AD3 -12.5,-8.5; AD4 -11.5,-8.5; AD5 -10.5,-8.5; AD6 -9.5,-8.5; AD7 -8.5,-8.5; AD8 -7.5,-8.5; AD9 -6.5,-8.5; AD10 -5.5,-8.5; AD11 -4.5,-8.5; AD12 -3.5,-8.5; AD13 -2.5,-8.5; AD14 -1.5,-8.5; AD15 -0.5,-8.5; AD16 0.5,-8.5; AD17 1.5,-8.5; AD18 2.5,-8.5; AD19 3.5,-8.5; AD20 4.5,-8.5; AD21 5.5,-8.5; AD22 6.5,-8.5; AD23 7.5,-8.5; AD24 8.5,-8.5; AD25 9.5,-8.5; AD26 10.5,-8.5; AD27 11.5,-8.5; AD28 12.5,-8.5; AD29 13.5,-8.5; AD30 14.5,-8.5; AE1 -14.5,-9.5; AE2 -13.5,-9.5; AE3 -12.5,-9.5; AE4 -11.5,-9.5; AE5 -10.5,-9.5; AE6 -9.5,-9.5; AE7 -8.5,-9.5; AE8 -7.5,-9.5; AE9 -6.5,-9.5; AE10 -5.5,-9.5; AE11 -4.5,-9.5; AE12 -3.5,-9.5; AE13 -2.5,-9.5; AE14 -1.5,-9.5; AE15 -0.5,-9.5; AE16 0.5,-9.5; AE17 1.5,-9.5; AE18 2.5,-9.5; AE19 3.5,-9.5; AE20 4.5,-9.5; AE21 5.5,-9.5; AE22 6.5,-9.5; AE23 7.5,-9.5; AE24 8.5,-9.5; AE25 9.5,-9.5; AE26 10.5,-9.5; AE27 11.5,-9.5; AE28 12.5,-9.5; AE29 13.5,-9.5; AE30 14.5,-9.5; AF1 -14.5,-10.5; AF2 -13.5,-10.5; AF3 -12.5,-10.5; AF4 -11.5,-10.5; AF5 -10.5,-10.5; AF6 -9.5,-10.5; AF7 -8.5,-10.5; AF8 -7.5,-10.5; AF9 -6.5,-10.5; AF10 -5.5,-10.5; AF11 -4.5,-10.5; AF12 -3.5,-10.5; AF13 -2.5,-10.5; AF14 -1.5,-10.5; AF15 -0.5,-10.5; AF16 0.5,-10.5; AF17 1.5,-10.5; AF18 2.5,-10.5; AF19 3.5,-10.5; AF20 4.5,-10.5; AF21 5.5,-10.5; AF22 6.5,-10.5; AF23 7.5,-10.5; AF24 8.5,-10.5; AF25 9.5,-10.5; AF26 10.5,-10.5; AF27 11.5,-10.5; AF28 12.5,-10.5; AF29 13.5,-10.5; AF30 14.5,-10.5; AG1 -14.5,-11.5; AG2 -13.5,-11.5; AG3 -12.5,-11.5; AG4 -11.5,-11.5; AG5 -10.5,-11.5; AG6 -9.5,-11.5; AG7 -8.5,-11.5; AG8 -7.5,-11.5; AG9 -6.5,-11.5; AG10 -5.5,-11.5; AG11 -4.5,-11.5; AG12 -3.5,-11.5; AG13 -2.5,-11.5; AG14 -1.5,-11.5; AG15 -0.5,-11.5; AG16 0.5,-11.5; AG17 1.5,-11.5; AG18 2.5,-11.5; AG19 3.5,-11.5; AG20 4.5,-11.5; AG21 5.5,-11.5; AG22 6.5,-11.5; AG23 7.5,-11.5; AG24 8.5,-11.5; AG25 9.5,-11.5; AG26 10.5,-11.5; AG27 11.5,-11.5; AG28 12.5,-11.5; AG29 13.5,-11.5; AG30 14.5,-11.5; AH1 -14.5,-12.5; AH2 -13.5,-12.5; AH3 -12.5,-12.5; AH4 -11.5,-12.5; AH5 -10.5,-12.5; AH6 -9.5,-12.5; AH7 -8.5,-12.5; AH8 -7.5,-12.5; AH9 -6.5,-12.5; AH10 -5.5,-12.5; AH11 -4.5,-12.5; AH12 -3.5,-12.5; AH13 -2.5,-12.5; AH14 -1.5,-12.5; AH15 -0.5,-12.5; AH16 0.5,-12.5; AH17 1.5,-12.5; AH18 2.5,-12.5; AH19 3.5,-12.5; AH20 4.5,-12.5; AH21 5.5,-12.5; AH22 6.5,-12.5; AH23 7.5,-12.5; AH24 8.5,-12.5; AH25 9.5,-12.5; AH26 10.5,-12.5; AH27 11.5,-12.5; AH28 12.5,-12.5; AH29 13.5,-12.5; AH30 14.5,-12.5; AJ1 -14.5,-13.5; AJ2 -13.5,-13.5; AJ3 -12.5,-13.5; AJ4 -11.5,-13.5; AJ5 -10.5,-13.5; AJ6 -9.5,-13.5; AJ7 -8.5,-13.5; AJ8 -7.5,-13.5; AJ9 -6.5,-13.5; AJ10 -5.5,-13.5; AJ11 -4.5,-13.5; AJ12 -3.5,-13.5; AJ13 -2.5,-13.5; AJ14 -1.5,-13.5; AJ15 -0.5,-13.5; AJ16 0.5,-13.5; AJ17 1.5,-13.5; AJ18 2.5,-13.5; AJ19 3.5,-13.5; AJ20 4.5,-13.5; AJ21 5.5,-13.5; AJ22 6.5,-13.5; AJ23 7.5,-13.5; AJ24 8.5,-13.5; AJ25 9.5,-13.5; AJ26 10.5,-13.5; AJ27 11.5,-13.5; AJ28 12.5,-13.5; AJ29 13.5,-13.5; AJ30 14.5,-13.5; AK1 -14.5,-14.5; AK2 -13.5,-14.5; AK3 -12.5,-14.5; AK4 -11.5,-14.5; AK5 -10.5,-14.5; AK6 -9.5,-14.5; AK7 -8.5,-14.5; AK8 -7.5,-14.5; AK9 -6.5,-14.5; AK10 -5.5,-14.5; AK11 -4.5,-14.5; AK12 -3.5,-14.5; AK13 -2.5,-14.5; AK14 -1.5,-14.5; AK15 -0.5,-14.5; AK16 0.5,-14.5; AK17 1.5,-14.5; AK18 2.5,-14.5; AK19 3.5,-14.5; AK20 4.5,-14.5; AK21 5.5,-14.5; AK22 6.5,-14.5; AK23 7.5,-14.5; AK24 8.5,-14.5; AK25 9.5,-14.5; AK26 10.5,-14.5; AK27 11.5,-14.5; AK28 12.5,-14.5; AK29 13.5,-14.5; AK30 14.5,-14.5; B1 -14.5,13.5; B2 -13.5,13.5; B3 -12.5,13.5; B4 -11.5,13.5; B5 -10.5,13.5; B6 -9.5,13.5; B7 -8.5,13.5; B8 -7.5,13.5; B9 -6.5,13.5; B10 -5.5,13.5; B11 -4.5,13.5; B12 -3.5,13.5; B13 -2.5,13.5; B14 -1.5,13.5; B15 -0.5,13.5; B16 0.5,13.5; B17 1.5,13.5; B18 2.5,13.5; B19 3.5,13.5; B20 4.5,13.5; B21 5.5,13.5; B22 6.5,13.5; B23 7.5,13.5; B24 8.5,13.5; B25 9.5,13.5; B26 10.5,13.5; B27 11.5,13.5; B28 12.5,13.5; B29 13.5,13.5; B30 14.5,13.5; C1 -14.5,12.5; C2 -13.5,12.5; C3 -12.5,12.5; C4 -11.5,12.5; C5 -10.5,12.5; C6 -9.5,12.5; C7 -8.5,12.5; C8 -7.5,12.5; C9 -6.5,12.5; C10 -5.5,12.5; C11 -4.5,12.5; C12 -3.5,12.5; C13 -2.5,12.5; C14 -1.5,12.5; C15 -0.5,12.5; C16 0.5,12.5; C17 1.5,12.5; C18 2.5,12.5; C19 3.5,12.5; C20 4.5,12.5; C21 5.5,12.5; C22 6.5,12.5; C23 7.5,12.5; C24 8.5,12.5; C25 9.5,12.5; C26 10.5,12.5; C27 11.5,12.5; C28 12.5,12.5; C29 13.5,12.5; C30 14.5,12.5; D1 -14.5,11.5; D2 -13.5,11.5; D3 -12.5,11.5; D4 -11.5,11.5; D5 -10.5,11.5; D6 -9.5,11.5; D7 -8.5,11.5; D8 -7.5,11.5; D9 -6.5,11.5; D10 -5.5,11.5; D11 -4.5,11.5; D12 -3.5,11.5; D13 -2.5,11.5; D14 -1.5,11.5; D15 -0.5,11.5; D16 0.5,11.5; D17 1.5,11.5; D18 2.5,11.5; D19 3.5,11.5; D20 4.5,11.5; D21 5.5,11.5; D22 6.5,11.5; D23 7.5,11.5; D24 8.5,11.5; D25 9.5,11.5; D26 10.5,11.5; D27 11.5,11.5; D28 12.5,11.5; D29 13.5,11.5; D30 14.5,11.5; E1 -14.5,10.5; E2 -13.5,10.5; E3 -12.5,10.5; E4 -11.5,10.5; E5 -10.5,10.5; E6 -9.5,10.5; E7 -8.5,10.5; E8 -7.5,10.5; E9 -6.5,10.5; E10 -5.5,10.5; E11 -4.5,10.5; E12 -3.5,10.5; E13 -2.5,10.5; E14 -1.5,10.5; E15 -0.5,10.5; E16 0.5,10.5; E17 1.5,10.5; E18 2.5,10.5; E19 3.5,10.5; E20 4.5,10.5; E21 5.5,10.5; E22 6.5,10.5; E23 7.5,10.5; E24 8.5,10.5; E25 9.5,10.5; E26 10.5,10.5; E27 11.5,10.5; E28 12.5,10.5; E29 13.5,10.5; E30 14.5,10.5; F1 -14.5,9.5; F2 -13.5,9.5; F3 -12.5,9.5; F4 -11.5,9.5; F5 -10.5,9.5; F6 -9.5,9.5; F7 -8.5,9.5; F8 -7.5,9.5; F9 -6.5,9.5; F10 -5.5,9.5; F11 -4.5,9.5; F12 -3.5,9.5; F13 -2.5,9.5; F14 -1.5,9.5; F15 -0.5,9.5; F16 0.5,9.5; F17 1.5,9.5; F18 2.5,9.5; F19 3.5,9.5; F20 4.5,9.5; F21 5.5,9.5; F22 6.5,9.5; F23 7.5,9.5; F24 8.5,9.5; F25 9.5,9.5; F26 10.5,9.5; F27 11.5,9.5; F28 12.5,9.5; F29 13.5,9.5; F30 14.5,9.5; G1 -14.5,8.5; G2 -13.5,8.5; G3 -12.5,8.5; G4 -11.5,8.5; G5 -10.5,8.5; G6 -9.5,8.5; G7 -8.5,8.5; G8 -7.5,8.5; G9 -6.5,8.5; G10 -5.5,8.5; G11 -4.5,8.5; G12 -3.5,8.5; G13 -2.5,8.5; G14 -1.5,8.5; G15 -0.5,8.5; G16 0.5,8.5; G17 1.5,8.5; G18 2.5,8.5; G19 3.5,8.5; G20 4.5,8.5; G21 5.5,8.5; G22 6.5,8.5; G23 7.5,8.5; G24 8.5,8.5; G25 9.5,8.5; G26 10.5,8.5; G27 11.5,8.5; G28 12.5,8.5; G29 13.5,8.5; G30 14.5,8.5; H1 -14.5,7.5; H2 -13.5,7.5; H3 -12.5,7.5; H4 -11.5,7.5; H5 -10.5,7.5; H6 -9.5,7.5; H7 -8.5,7.5; H8 -7.5,7.5; H9 -6.5,7.5; H10 -5.5,7.5; H11 -4.5,7.5; H12 -3.5,7.5; H13 -2.5,7.5; H14 -1.5,7.5; H15 -0.5,7.5; H16 0.5,7.5; H17 1.5,7.5; H18 2.5,7.5; H19 3.5,7.5; H20 4.5,7.5; H21 5.5,7.5; H22 6.5,7.5; H23 7.5,7.5; H24 8.5,7.5; H25 9.5,7.5; H26 10.5,7.5; H27 11.5,7.5; H28 12.5,7.5; H29 13.5,7.5; H30 14.5,7.5; J1 -14.5,6.5; J2 -13.5,6.5; J3 -12.5,6.5; J4 -11.5,6.5; J5 -10.5,6.5; J6 -9.5,6.5; J7 -8.5,6.5; J8 -7.5,6.5; J9 -6.5,6.5; J10 -5.5,6.5; J11 -4.5,6.5; J12 -3.5,6.5; J13 -2.5,6.5; J14 -1.5,6.5; J15 -0.5,6.5; J16 0.5,6.5; J17 1.5,6.5; J18 2.5,6.5; J19 3.5,6.5; J20 4.5,6.5; J21 5.5,6.5; J22 6.5,6.5; J23 7.5,6.5; J24 8.5,6.5; J25 9.5,6.5; J26 10.5,6.5; J27 11.5,6.5; J28 12.5,6.5; J29 13.5,6.5; J30 14.5,6.5; K1 -14.5,5.5; K2 -13.5,5.5; K3 -12.5,5.5; K4 -11.5,5.5; K5 -10.5,5.5; K6 -9.5,5.5; K7 -8.5,5.5; K8 -7.5,5.5; K9 -6.5,5.5; K10 -5.5,5.5; K11 -4.5,5.5; K12 -3.5,5.5; K13 -2.5,5.5; K14 -1.5,5.5; K15 -0.5,5.5; K16 0.5,5.5; K17 1.5,5.5; K18 2.5,5.5; K19 3.5,5.5; K20 4.5,5.5; K21 5.5,5.5; K22 6.5,5.5; K23 7.5,5.5; K24 8.5,5.5; K25 9.5,5.5; K26 10.5,5.5; K27 11.5,5.5; K28 12.5,5.5; K29 13.5,5.5; K30 14.5,5.5; L1 -14.5,4.5; L2 -13.5,4.5; L3 -12.5,4.5; L4 -11.5,4.5; L5 -10.5,4.5; L6 -9.5,4.5; L7 -8.5,4.5; L8 -7.5,4.5; L9 -6.5,4.5; L10 -5.5,4.5; L11 -4.5,4.5; L12 -3.5,4.5; L13 -2.5,4.5; L14 -1.5,4.5; L15 -0.5,4.5; L16 0.5,4.5; L17 1.5,4.5; L18 2.5,4.5; L19 3.5,4.5; L20 4.5,4.5; L21 5.5,4.5; L22 6.5,4.5; L23 7.5,4.5; L24 8.5,4.5; L25 9.5,4.5; L26 10.5,4.5; L27 11.5,4.5; L28 12.5,4.5; L29 13.5,4.5; L30 14.5,4.5; M1 -14.5,3.5; M2 -13.5,3.5; M3 -12.5,3.5; M4 -11.5,3.5; M5 -10.5,3.5; M6 -9.5,3.5; M7 -8.5,3.5; M8 -7.5,3.5; M9 -6.5,3.5; M10 -5.5,3.5; M11 -4.5,3.5; M12 -3.5,3.5; M13 -2.5,3.5; M14 -1.5,3.5; M15 -0.5,3.5; M16 0.5,3.5; M17 1.5,3.5; M18 2.5,3.5; M19 3.5,3.5; M20 4.5,3.5; M21 5.5,3.5; M22 6.5,3.5; M23 7.5,3.5; M24 8.5,3.5; M25 9.5,3.5; M26 10.5,3.5; M27 11.5,3.5; M28 12.5,3.5; M29 13.5,3.5; M30 14.5,3.5; N1 -14.5,2.5; N2 -13.5,2.5; N3 -12.5,2.5; N4 -11.5,2.5; N5 -10.5,2.5; N6 -9.5,2.5; N7 -8.5,2.5; N8 -7.5,2.5; N9 -6.5,2.5; N10 -5.5,2.5; N11 -4.5,2.5; N12 -3.5,2.5; N13 -2.5,2.5; N14 -1.5,2.5; N15 -0.5,2.5; N16 0.5,2.5; N17 1.5,2.5; N18 2.5,2.5; N19 3.5,2.5; N20 4.5,2.5; N21 5.5,2.5; N22 6.5,2.5; N23 7.5,2.5; N24 8.5,2.5; N25 9.5,2.5; N26 10.5,2.5; N27 11.5,2.5; N28 12.5,2.5; N29 13.5,2.5; N30 14.5,2.5; P1 -14.5,1.5; P2 -13.5,1.5; P3 -12.5,1.5; P4 -11.5,1.5; P5 -10.5,1.5; P6 -9.5,1.5; P7 -8.5,1.5; P8 -7.5,1.5; P9 -6.5,1.5; P10 -5.5,1.5; P11 -4.5,1.5; P12 -3.5,1.5; P13 -2.5,1.5; P14 -1.5,1.5; P15 -0.5,1.5; P16 0.5,1.5; P17 1.5,1.5; P18 2.5,1.5; P19 3.5,1.5; P20 4.5,1.5; P21 5.5,1.5; P22 6.5,1.5; P23 7.5,1.5; P24 8.5,1.5; P25 9.5,1.5; P26 10.5,1.5; P27 11.5,1.5; P28 12.5,1.5; P29 13.5,1.5; P30 14.5,1.5; R1 -14.5,0.5; R2 -13.5,0.5; R3 -12.5,0.5; R4 -11.5,0.5; R5 -10.5,0.5; R6 -9.5,0.5; R7 -8.5,0.5; R8 -7.5,0.5; R9 -6.5,0.5; R10 -5.5,0.5; R11 -4.5,0.5; R12 -3.5,0.5; R13 -2.5,0.5; R14 -1.5,0.5; R15 -0.5,0.5; R16 0.5,0.5; R17 1.5,0.5; R18 2.5,0.5; R19 3.5,0.5; R20 4.5,0.5; R21 5.5,0.5; R22 6.5,0.5; R23 7.5,0.5; R24 8.5,0.5; R25 9.5,0.5; R26 10.5,0.5; R27 11.5,0.5; R28 12.5,0.5; R29 13.5,0.5; R30 14.5,0.5; T1 -14.5,-0.5; T2 -13.5,-0.5; T3 -12.5,-0.5; T4 -11.5,-0.5; T5 -10.5,-0.5; T6 -9.5,-0.5; T7 -8.5,-0.5; T8 -7.5,-0.5; T9 -6.5,-0.5; T10 -5.5,-0.5; T11 -4.5,-0.5; T12 -3.5,-0.5; T13 -2.5,-0.5; T14 -1.5,-0.5; T15 -0.5,-0.5; T16 0.5,-0.5; T17 1.5,-0.5; T18 2.5,-0.5; T19 3.5,-0.5; T20 4.5,-0.5; T21 5.5,-0.5; T22 6.5,-0.5; T23 7.5,-0.5; T24 8.5,-0.5; T25 9.5,-0.5; T26 10.5,-0.5; T27 11.5,-0.5; T28 12.5,-0.5; T29 13.5,-0.5; T30 14.5,-0.5; U1 -14.5,-1.5; U2 -13.5,-1.5; U3 -12.5,-1.5; U4 -11.5,-1.5; U5 -10.5,-1.5; U6 -9.5,-1.5; U7 -8.5,-1.5; U8 -7.5,-1.5; U9 -6.5,-1.5; U10 -5.5,-1.5; U11 -4.5,-1.5; U12 -3.5,-1.5; U13 -2.5,-1.5; U14 -1.5,-1.5; U15 -0.5,-1.5; U16 0.5,-1.5; U17 1.5,-1.5; U18 2.5,-1.5; U19 3.5,-1.5; U20 4.5,-1.5; U21 5.5,-1.5; U22 6.5,-1.5; U23 7.5,-1.5; U24 8.5,-1.5; U25 9.5,-1.5; U26 10.5,-1.5; U27 11.5,-1.5; U28 12.5,-1.5; U29 13.5,-1.5; U30 14.5,-1.5; V1 -14.5,-2.5; V2 -13.5,-2.5; V3 -12.5,-2.5; V4 -11.5,-2.5; V5 -10.5,-2.5; V6 -9.5,-2.5; V7 -8.5,-2.5; V8 -7.5,-2.5; V9 -6.5,-2.5; V10 -5.5,-2.5; V11 -4.5,-2.5; V12 -3.5,-2.5; V13 -2.5,-2.5; V14 -1.5,-2.5; V15 -0.5,-2.5; V16 0.5,-2.5; V17 1.5,-2.5; V18 2.5,-2.5; V19 3.5,-2.5; V20 4.5,-2.5; V21 5.5,-2.5; V22 6.5,-2.5; V23 7.5,-2.5; V24 8.5,-2.5; V25 9.5,-2.5; V26 10.5,-2.5; V27 11.5,-2.5; V28 12.5,-2.5; V29 13.5,-2.5; V30 14.5,-2.5; W1 -14.5,-3.5; W2 -13.5,-3.5; W3 -12.5,-3.5; W4 -11.5,-3.5; W5 -10.5,-3.5; W6 -9.5,-3.5; W7 -8.5,-3.5; W8 -7.5,-3.5; W9 -6.5,-3.5; W10 -5.5,-3.5; W11 -4.5,-3.5; W12 -3.5,-3.5; W13 -2.5,-3.5; W14 -1.5,-3.5; W15 -0.5,-3.5; W16 0.5,-3.5; W17 1.5,-3.5; W18 2.5,-3.5; W19 3.5,-3.5; W20 4.5,-3.5; W21 5.5,-3.5; W22 6.5,-3.5; W23 7.5,-3.5; W24 8.5,-3.5; W25 9.5,-3.5; W26 10.5,-3.5; W27 11.5,-3.5; W28 12.5,-3.5; W29 13.5,-3.5; W30 14.5,-3.5; Y1 -14.5,-4.5; Y2 -13.5,-4.5; Y3 -12.5,-4.5; Y4 -11.5,-4.5; Y5 -10.5,-4.5; Y6 -9.5,-4.5; Y7 -8.5,-4.5; Y8 -7.5,-4.5; Y9 -6.5,-4.5; Y10 -5.5,-4.5; Y11 -4.5,-4.5; Y12 -3.5,-4.5; Y13 -2.5,-4.5; Y14 -1.5,-4.5; Y15 -0.5,-4.5; Y16 0.5,-4.5; Y17 1.5,-4.5; Y18 2.5,-4.5; Y19 3.5,-4.5; Y20 4.5,-4.5; Y21 5.5,-4.5; Y22 6.5,-4.5; Y23 7.5,-4.5; Y24 8.5,-4.5; Y25 9.5,-4.5; Y26 10.5,-4.5; Y27 11.5,-4.5; Y28 12.5,-4.5; Y29 13.5,-4.5; Y30 14.5,-4.5